# EAGLE library part EK508V-09P (library gost_con_screw)
282837-9 (EK508V-09P), Клеммник 9-контактный, 5.08мм 13.5А
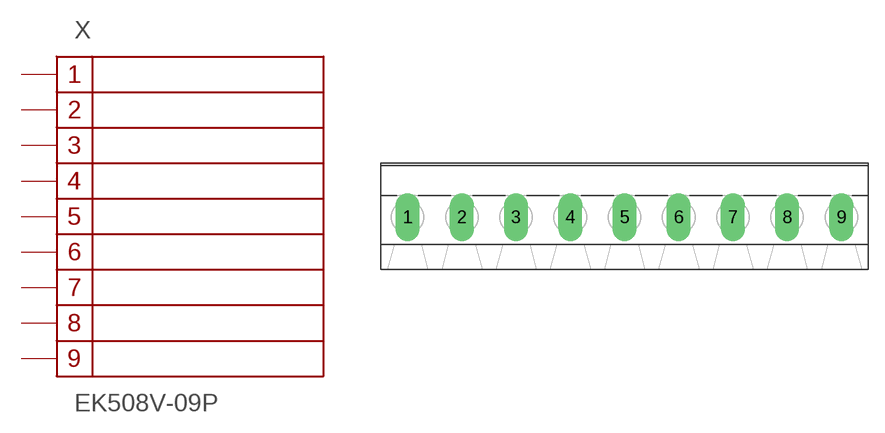
[diagram p0: symbol with the pads of 5.08-9; footprint 5.08-9]

Designator prefix X

## EK508V-09P  [5.08-9]
1  1
2  2
3  3
4  4
5  5
6  6
7  7
8  8
9  9

## Footprint 5.08-9 (pad centres in mm)
282837-X (EK508V-XXP), Клеммник 5.08мм 13.5А
drill 1.5 long: 1 -5.08,0; 2 0,0; 3 5.08,0; 4 10.16,0; 5 15.24,0; 6 20.32,0; 7 25.4,0; 8 30.48,0; 9 35.56,0